# Altium integrated library W25QXX.IntLib: 1 symbol
Pins are listed as number, name and electrical type; pins without a type are passive.

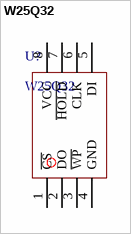
[diagram p0: symbol W25Q32]

## W25Q32
designator U?
footprint W25Q32(SOP127P790X216-8N) (SOP, 8-Leads, Body 5.4x5.4mm (max), Pitch 1.27mm, IPC Medium Density)
pins: 1 ~{CS}, 2 DO, 3 ~{WP}, 4 GND, 5 DI, 6 CLK, 7 ~{HOLD}, 8 VCC